# Altium footprint library PcbLib1.PcbLib: 14 footprints
Each footprint in its own frame and in the unit in brackets; x right, y up, seen from the top. Pads: shape width x height; smd on the part's side, far side on the other; paste and mask are expansions set on the pad; w line width, h text height; cw(c..) or ccw(c..) is an arc to the next point about the centre after c.
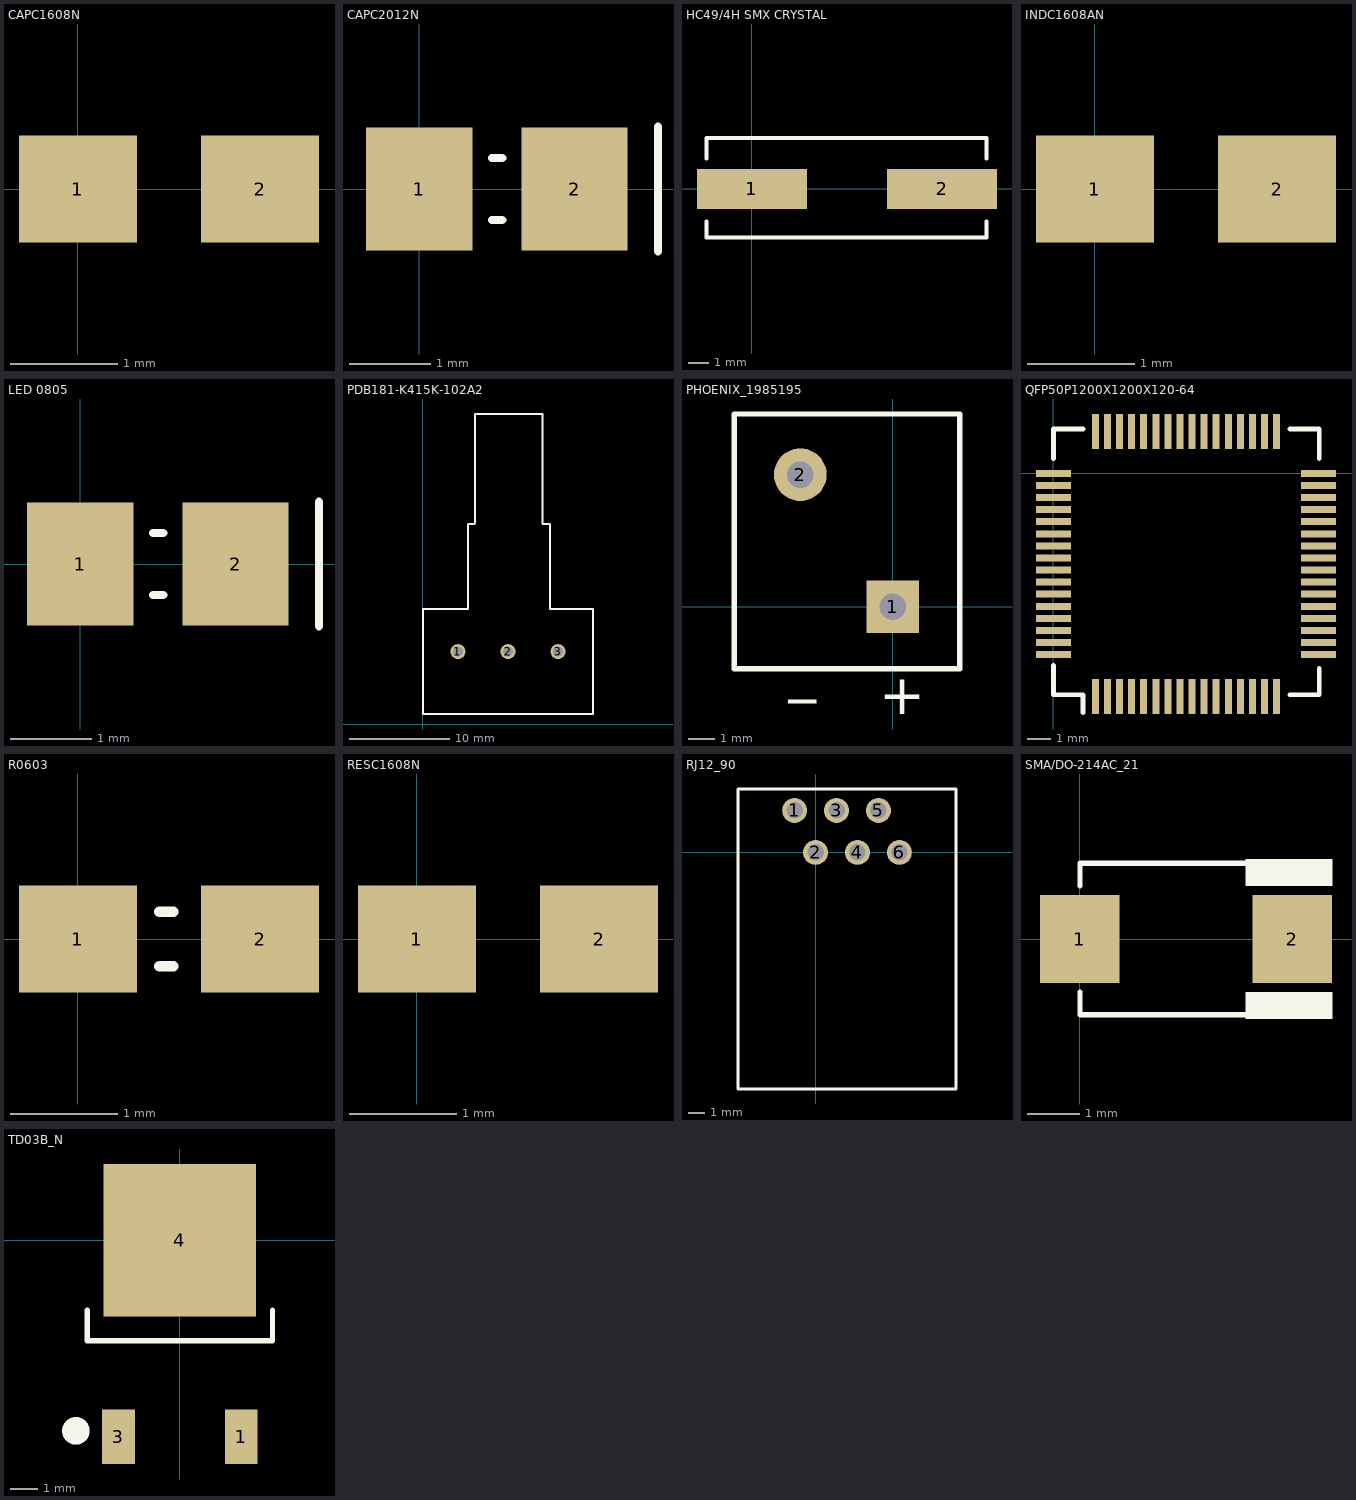
[diagram p0: the footprints below, top view; thin cyan lines are the x and y axes]

## Blank [mm]

## CAPC1608N [mm]
pads (2):
  rect 1.1x1 smd: 1(0,0) 2(1.7,0)

## CAPC2012N [mm]
pads (2):
  rect 1.3x1.5 smd: 1(0,0) 2(1.9,0)
Top Overlay:
  lines w0.1: 0.889,-0.381 1.016,-0.381 ; 0.889,0.381 1.016,0.381 ; 2.921,-0.762 2.921,0.762

## HC49/4H SMX CRYSTAL [mm]
pads (2):
  rect 5.5x2 smd: 1(0,0) 2(9.5,0)
Top Overlay:
  lines w0.2: -2.286,-2.413 11.714,-2.413 11.714,-1.621 ; -2.286,-2.383 -2.286,-1.621 ; -2.286,1.524 -2.286,2.54 11.714,2.54 ; 11.714,1.524 11.714,2.51

## INDC1608AN [mm]
pads (2):
  rect 1.1x1 smd: 1(0,0) 2(1.7,0)

## LED 0805 [mm]
pads (2):
  rect 1.3x1.5 smd: 1(0,0) 2(1.9,0)
Top Overlay:
  lines w0.1: 0.889,-0.381 1.016,-0.381 ; 0.889,0.381 1.016,0.381 ; 2.921,-0.762 2.921,0.762

## PDB181-K415K-102A2 [mm]
pads (3):
  round 1.5 hole 1: 1(3.5,7.25) 2(8.5,7.25) 3(13.5,7.25)
Top Overlay:
  lines w0.2: 4.402,11.5 0,11.5 0,1.016 17,1.016 17,11.5 12.77,11.5 12.7,11.57 ; 4.5,11.5 4.5,20 5.146,20 5.207,20.061 5.207,30.988 11.938,30.988 11.938,20.061 11.999,20 12.7,20 12.7,11.5

## PHOENIX_1985195 [mm]
pads (2):
  rect 2x2 hole 1: 1(0,0)
  round 2 hole 1: 2(-3.5,5)
Top Overlay:
  lines w0.2: 2.5,-2.352 -6,-2.352 -6,7.3 2.5,7.3 ; 2.54,-2.352 2.54,7.3
  text "_" at -3.937,-3.175 h1.52
  text "+" at -0.508,-4.064 h1.52

## QFP50P1200X1200X120-64 [mm]
pads (64):
  rect 0.3x1.5 smd: 1(1.8,-9.6) 2(2.32,-9.6) 3(2.84,-9.6) 4(3.36,-9.6) 5(3.88,-9.6) 6(4.4,-9.6) 7(4.92,-9.6) 8(5.44,-9.6) 9(5.96,-9.6) 10(6.48,-9.6) 11(7,-9.6) 12(7.52,-9.6) 13(8.04,-9.6) 14(8.56,-9.6) 15(9.08,-9.6) 16(9.6,-9.6) 33(9.6,1.8) 34(9.08,1.8) 35(8.56,1.8) 36(8.04,1.8) 37(7.52,1.8) 38(7,1.8) 39(6.48,1.8) 40(5.96,1.8) 41(5.44,1.8) 42(4.92,1.8) 43(4.4,1.8) 44(3.88,1.8) 45(3.36,1.8) 46(2.84,1.8) 47(2.32,1.8) 48(1.8,1.8)
  rect 1.5x0.3 smd: 17(11.4,-7.8) 18(11.4,-7.28) 19(11.4,-6.76) 20(11.4,-6.24) 21(11.4,-5.72) 22(11.4,-5.2) 23(11.4,-4.68) 24(11.4,-4.16) 25(11.4,-3.64) 26(11.4,-3.12) 27(11.4,-2.6) 28(11.4,-2.08) 29(11.4,-1.56) 30(11.4,-1.04) 31(11.4,-0.52) 32(11.4,0) 49(0,0) 50(0,-0.52) 51(0,-1.04) 52(0,-1.56) 53(0,-2.08) 54(0,-2.6) 55(0,-3.12) 56(0,-3.64) 57(0,-4.16) 58(0,-4.68) 59(0,-5.2) 60(0,-5.72) 61(0,-6.24) 62(0,-6.76) 63(0,-7.28) 64(0,-7.8)
Top Overlay:
  lines w0.2: 0,-8.255 0,-9.525 1.27,-9.525 1.27,-10.287 ; 0,0.635 0,1.905 1.27,1.905 ; 10.16,-9.525 11.43,-9.525 11.43,-8.382 ; 10.16,1.905 11.43,1.905 11.43,0.635

## R0603 [mm]
pads (2):
  rect 1.1x1 smd: 1(0,0) 2(1.7,0)
Top Overlay:
  lines w0.1: 0.762,-0.254 0.889,-0.254 ; 0.762,0.254 0.889,0.254

## RESC1608N [mm]
pads (2):
  rect 1.1x1 smd: 1(0,0) 2(1.7,0)

## RJ12_90 [mm]
pads (6):
  round 1.5 hole 1: 1(-1.27,2.54) 2(0,0) 3(1.27,2.54) 4(2.54,0) 5(3.81,2.54) 6(5.08,0)
Top Overlay:
  lines w0.2: -4.699,-14.321 8.509,-14.321 ; -4.699,-14.26 -4.699,0.254 -4.699,3.84 8.509,3.84 8.509,0.254 8.509,-14.26

## SMA/DO-214AC_21 [mm]
pads (2):
  rect 1.52x1.68 smd: 1(0,0) 2(4.06,0)
Top Overlay:
  region: 4.826,-1.524 4.826,-1.016 3.175,-1.016 3.175,-1.524
  region: 4.826,1.016 4.826,1.524 3.175,1.524 3.175,1.016
  lines w0.1: 0,-1.016 0,-1.45 4.699,-1.45 ; 0,1.016 0,1.45 4.572,1.45

## TD03B_N [mm]
pads (3):
  rect 1.2x2 smd: 1(2.25,-7.2) 3(-2.25,-7.2)
  rect 5.6x5.6 smd: 4(0,0)
Top Overlay:
  circle w0.254: c-3.81,-6.985 r0.381
  rectangle: -4.064,-7.366 -3.556,-6.604
  lines w0.2: -3.4,-2.569 -3.4,-3.683 3.4,-3.683 3.4,-2.569